# EAGLE library part LP3947 (library X893)
USB/AC Adaptor, Single Cell Li-Ion Battery Charger IC from the PowerWise® Family http://www.national.com/mpf/LP/LP3947.html
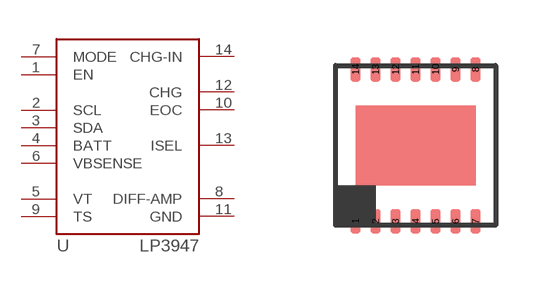
[diagram p105: symbol with the pads of SDA14B; footprint SDA14B]

Designator prefix U

## LP3947  [SDA14B]
1  EN  in
2  SCL  in
3  SDA  oc
4  BATT  pas
5  VT  pas
6  VBSENSE  pas
7  MODE  in
8  DIFF-AMP  pas
9  TS  pas
10  EOC  oc
11  GND  sup
12  CHG  oc
13  ISEL  pas
14  CHG-IN  pas

## Footprint SDA14B (pad centres in mm)
smd 0.25 x 0.6: 1 -1.5,-1.9; 2 -1,-1.9; 3 -0.5,-1.9; 4 0,-1.9; 5 0.5,-1.9; 6 1,-1.9; 7 1.5,-1.9; 8 1.5,1.9; 9 1,1.9; 10 0.5,1.9; 11 0,1.9; 12 -0.5,1.9; 13 -1,1.9; 14 -1.5,1.9